# EAGLE library part 2X4_LOW_PROFILE_JUMPER (library connector-jqi)
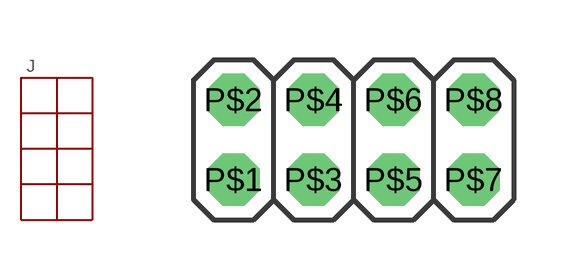
[diagram p5: symbol with the pads of 2X4_LOW_PROFILE_JUMPER_MATRIX; footprint 2X4_LOW_PROFILE_JUMPER_MATRIX]

Designator prefix J

## 2X4_LOW_PROFILE_JUMPER (DIGIKEY: S5801-04-ND)  [2X4_LOW_PROFILE_JUMPER_MATRIX]
P$1  P$1
P$2  P$2
P$3  P$3
P$4  P$4
P$5  P$5
P$6  P$6
P$7  P$7
P$8  P$8

## Footprint 2X4_LOW_PROFILE_JUMPER_MATRIX (pad centres in mm)
drill 0.8 pad 1.27 octagon: P$1 -3,-1; P$2 -3,1; P$3 -1,-1; P$4 -1,1; P$5 1,-1; P$6 1,1; P$7 3,-1; P$8 3,1